# Altium footprint library SLF7045.PcbLib: 1 footprints
Each footprint in its own frame and in the unit in brackets; x right, y up, seen from the top. Pads: shape width x height; smd on the part's side, far side on the other; paste and mask are expansions set on the pad; w line width, h text height; cw(c..) or ccw(c..) is an arc to the next point about the centre after c.
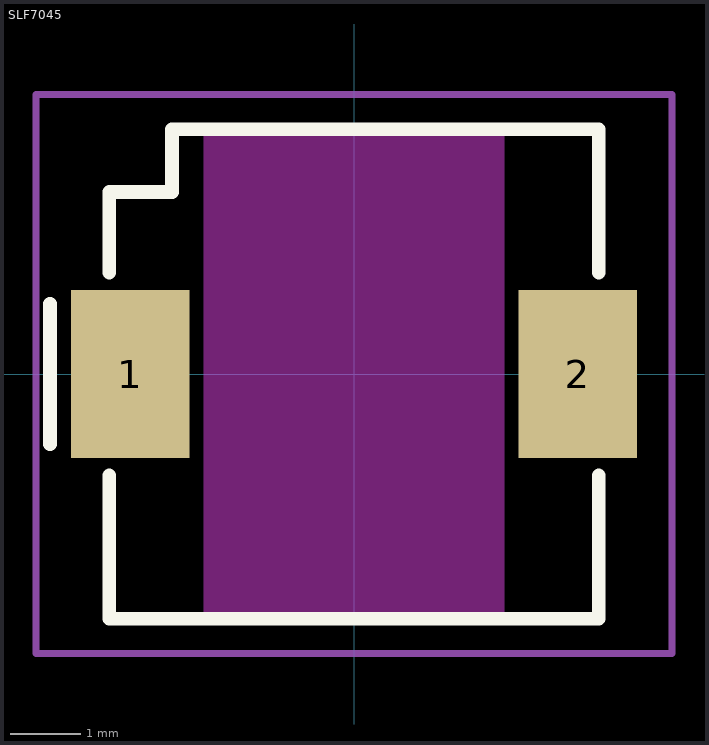
[diagram p0: the footprint, top view; thin cyan lines are the x and y axes]

## SLF7045 [mm]
pads (2):
  rect 1.7x2.4 smd: 1(-3.2,0) 2(3.2,0)
Top Layer keep-out:
  rectangle: -2.15,-3.5 2.15,3.5
Top Overlay:
  lines w0.2: -4.35,-1 -4.35,1 ; -3.5,-1.45 -3.5,-3.5 3.5,-3.5 3.5,-1.45 ; -3.5,1.45 -3.5,2.6 -2.6,2.6 -2.6,3.5 3.5,3.5 3.5,1.45
Top Courtyard:
  lines w0.1: -4.55,-1.2 -4.55,-4 ; -3.6,-4 -4.55,-4 ; 3.6,4 4.55,4 ; 4.55,1.2 4.55,4 ; -4.55,-4 -4.55,4 4.55,4 ; -4.55,-4 4.55,-4 4.55,4
3D body "User Library-Coil.step": height 4.61, standoff 0, extent -3.6,-3.5 3.6,3.5